# Altium schematic symbol library buzzer.SCHLIB: 39 symbols
Pins are listed as number, name and electrical type; pins without a type are passive.

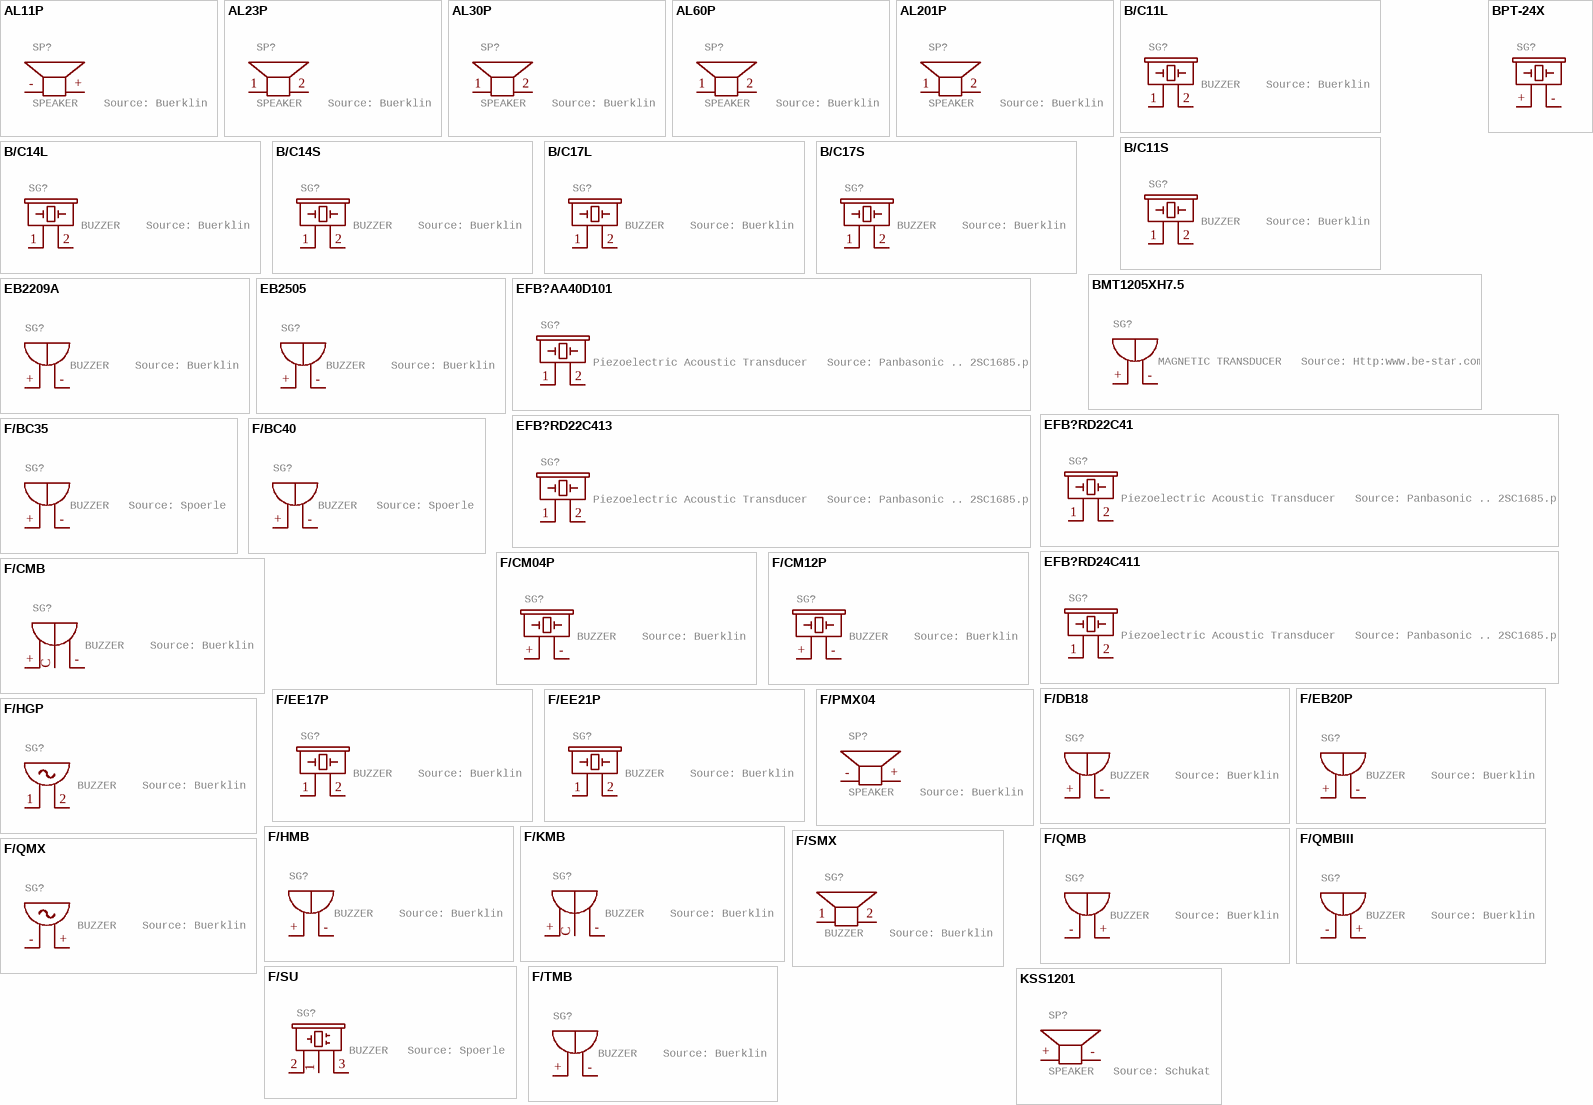
[diagram p0: symbols AL11P to KSS1201]

## AL11P
designator SP?, comment SPEAKER    Source: Buerklin
GateName_1: G$1; SymbolName_1: SP; DeviceSetName: AL11P; POPULARITY: 3; LibraryName: buzzer; Package: AL11P; OC_FARNELL: unknown; OC_NEWARK: unknown
footprint AL11P
pins: + 2, - 1

## AL23P
designator SP?, comment SPEAKER    Source: Buerklin
GateName_1: G$1; SymbolName_1: SP; DeviceSetName: AL23P; POPULARITY: 3; LibraryName: buzzer; Package: AL23P; OC_FARNELL: unknown; OC_NEWARK: unknown
footprint AL23P
pins: 1, 2

## AL30P
designator SP?, comment SPEAKER    Source: Buerklin
GateName_1: G$1; SymbolName_1: SP; DeviceSetName: AL30P; POPULARITY: 0; LibraryName: buzzer; Package: AL30P; OC_FARNELL: unknown; OC_NEWARK: unknown
footprint AL30P
pins: 1, 2

## AL60P
designator SP?, comment SPEAKER    Source: Buerklin
GateName_1: G$1; SymbolName_1: SP; DeviceSetName: AL60P; POPULARITY: 2; LibraryName: buzzer; Package: AL60P; OC_FARNELL: unknown; OC_NEWARK: unknown
footprint AL60P
pins: 1, 2

## AL201P
designator SP?, comment SPEAKER    Source: Buerklin
GateName_1: G$1; SymbolName_1: SP; DeviceSetName: AL201P; POPULARITY: 1; LibraryName: buzzer; Package: AL201P; OC_FARNELL: unknown; OC_NEWARK: unknown
footprint AL201P
pins: 1, 2

## B/C11L
designator SG?, comment BUZZER    Source: Buerklin
GateName_1: G$1; SymbolName_1: B2P; DeviceSetName: B/C11L; POPULARITY: 2; LibraryName: buzzer; Package: B/C11L; OC_FARNELL: unknown; OC_NEWARK: unknown
footprint B/C11L
pins: 1, 2

## B/C11S
designator SG?, comment BUZZER    Source: Buerklin
GateName_1: G$1; SymbolName_1: B2P; DeviceSetName: B/C11S; POPULARITY: 2; LibraryName: buzzer; Package: B/C11S; OC_FARNELL: unknown; OC_NEWARK: unknown
footprint B/C11S
pins: 1, 2

## B/C14L
designator SG?, comment BUZZER    Source: Buerklin
GateName_1: G$1; SymbolName_1: B2P; DeviceSetName: B/C14L; POPULARITY: 0; LibraryName: buzzer; Package: B/C14L; OC_FARNELL: unknown; OC_NEWARK: unknown
footprint B/C14L
pins: 1, 2

## B/C14S
designator SG?, comment BUZZER    Source: Buerklin
GateName_1: G$1; SymbolName_1: B2P; DeviceSetName: B/C14S; POPULARITY: 0; LibraryName: buzzer; Package: B/C14S; OC_FARNELL: unknown; OC_NEWARK: unknown
footprint B/C14S
pins: 1, 2

## B/C17L
designator SG?, comment BUZZER    Source: Buerklin
GateName_1: G$1; SymbolName_1: B2P; DeviceSetName: B/C17L; POPULARITY: 0; LibraryName: buzzer; Package: B/C17L; OC_FARNELL: unknown; OC_NEWARK: unknown
footprint B/C17L
pins: 1, 2

## B/C17S
designator SG?, comment BUZZER    Source: Buerklin
GateName_1: G$1; SymbolName_1: B2P; DeviceSetName: B/C17S; POPULARITY: 0; LibraryName: buzzer; Package: B/C17S; OC_FARNELL: unknown; OC_NEWARK: unknown
footprint B/C17S
pins: 1, 2

## BMT1205XH7.5
designator SG?, comment MAGNETIC TRANSDUCER   Source: Http:www.be-star.com
GateName_1: G$1; SymbolName_1: B; DeviceSetName: BMT1205XH7.5; POPULARITY: 0; LibraryName: buzzer; Package: BMT1205XH7.5; OC_FARNELL: unknown; OC_NEWARK: unknown
footprint BMT1205XH7.5
pins: +, -

## BPT-24X
designator SG?
GateName_1: G$1; SymbolName_1: B2P; DeviceSetName: BPT-24X; POPULARITY: 0; LibraryName: buzzer; Package: BPT-24X; OC_FARNELL: unknown; OC_NEWARK: unknown
footprint BPT-24X
pins: + 1, - 2

## EB2209A
designator SG?, comment BUZZER    Source: Buerklin
GateName_1: G$1; SymbolName_1: B; DeviceSetName: EB2209A; POPULARITY: 0; LibraryName: buzzer; Package: EB2209A; OC_FARNELL: unknown; OC_NEWARK: unknown
footprint EB2209A
pins: +, -

## EB2505
designator SG?, comment BUZZER    Source: Buerklin
GateName_1: G$1; SymbolName_1: B; DeviceSetName: EB2505; POPULARITY: 0; LibraryName: buzzer; Package: EB2505; OC_FARNELL: unknown; OC_NEWARK: unknown
footprint EB2505
pins: +, -

## EFB?AA40D101
designator SG?, comment Piezoelectric Acoustic Transducer   Source: Panbasonic .. 2SC1685.pdf
GateName_1: G$1; SymbolName_1: B2P; DeviceName: AA40D101; DeviceSetName: EFB?; POPULARITY: 0; LibraryName: buzzer; Package: EFBAA40D101; OC_FARNELL: unknown; OC_NEWARK: unknown
footprint EFBAA40D101
pins: 1, 2

## EFB?RD22C41
designator SG?, comment Piezoelectric Acoustic Transducer   Source: Panbasonic .. 2SC1685.pdf
GateName_1: G$1; SymbolName_1: B2P; DeviceName: RD22C41; DeviceSetName: EFB?; POPULARITY: 0; LibraryName: buzzer; Package: EFBRD22C41; OC_FARNELL: unknown; OC_NEWARK: unknown
footprint EFBRD22C41
pins: 1, 2

## EFB?RD22C413
designator SG?, comment Piezoelectric Acoustic Transducer   Source: Panbasonic .. 2SC1685.pdf
GateName_1: G$1; SymbolName_1: B2P; DeviceName: RD22C413; DeviceSetName: EFB?; POPULARITY: 0; LibraryName: buzzer; Package: EFBRD22C413; OC_FARNELL: unknown; OC_NEWARK: unknown
footprint EFBRD22C413
pins: 1, 2

## EFB?RD24C411
designator SG?, comment Piezoelectric Acoustic Transducer   Source: Panbasonic .. 2SC1685.pdf
GateName_1: G$1; SymbolName_1: B2P; DeviceName: RD24C411; DeviceSetName: EFB?; POPULARITY: 0; LibraryName: buzzer; Package: EFBRD24C411; OC_FARNELL: unknown; OC_NEWARK: unknown
footprint EFBRD24C411
pins: 1, 2

## F/BC35
designator SG?, comment BUZZER   Source: Spoerle
GateName_1: G$1; SymbolName_1: B; DeviceSetName: F/BC35; POPULARITY: 0; LibraryName: buzzer; Package: F/BC35; OC_FARNELL: unknown; OC_NEWARK: unknown
footprint F/BC35
pins: +, -

## F/BC40
designator SG?, comment BUZZER   Source: Spoerle
GateName_1: G$1; SymbolName_1: B; DeviceSetName: F/BC40; POPULARITY: 0; LibraryName: buzzer; Package: F/BC40; OC_FARNELL: unknown; OC_NEWARK: unknown
footprint F/BC40
pins: +, -

## F/CM04P
designator SG?, comment BUZZER    Source: Buerklin
GateName_1: G$1; SymbolName_1: B2P; DeviceSetName: F/CM04P; POPULARITY: 0; LibraryName: buzzer; Package: F/CM04P; OC_FARNELL: unknown; OC_NEWARK: unknown
footprint F/CM04P
pins: + 1, - 2

## F/CM12P
designator SG?, comment BUZZER    Source: Buerklin
GateName_1: G$1; SymbolName_1: B2P; DeviceSetName: F/CM12P; POPULARITY: 9; LibraryName: buzzer; Package: F/CM12P; OC_FARNELL: unknown; OC_NEWARK: unknown
footprint F/CM12P
pins: + 1, - 2

## F/CMB
designator SG?, comment BUZZER    Source: Buerklin
GateName_1: 1; SymbolName_1: BT; DeviceSetName: F/CMB; POPULARITY: 0; LibraryName: buzzer; Package: F/CMB; OC_FARNELL: unknown; OC_NEWARK: unknown
footprint F/CMB
pins: +, -, C T

## F/DB18
designator SG?, comment BUZZER    Source: Buerklin
GateName_1: G$1; SymbolName_1: B; DeviceSetName: F/DB18; POPULARITY: 0; LibraryName: buzzer; Package: F/DB18; OC_FARNELL: unknown; OC_NEWARK: unknown
footprint F/DB18
pins: +, -

## F/EB20P
designator SG?, comment BUZZER    Source: Buerklin
GateName_1: G$1; SymbolName_1: B; DeviceSetName: F/EB20P; POPULARITY: 0; LibraryName: buzzer; Package: F/EB20P; OC_FARNELL: unknown; OC_NEWARK: unknown
footprint F/EB20P
pins: +, -

## F/EE17P
designator SG?, comment BUZZER    Source: Buerklin
GateName_1: G$1; SymbolName_1: B2P; DeviceSetName: F/EE17P; POPULARITY: 0; LibraryName: buzzer; Package: F/EE17P; OC_FARNELL: unknown; OC_NEWARK: unknown
footprint F/EE17P
pins: 1, 2

## F/EE21P
designator SG?, comment BUZZER    Source: Buerklin
GateName_1: G$1; SymbolName_1: B2P; DeviceSetName: F/EE21P; POPULARITY: 0; LibraryName: buzzer; Package: F/EE21P; OC_FARNELL: unknown; OC_NEWARK: unknown
footprint F/EE21P
pins: 1, 2

## F/HGP
designator SG?, comment BUZZER    Source: Buerklin
GateName_1: G$1; SymbolName_1: BWS; DeviceSetName: F/HGP; POPULARITY: 0; LibraryName: buzzer; Package: F/HGP; OC_FARNELL: unknown; OC_NEWARK: unknown
footprint F/HGP
pins: 1, 2

## F/HMB
designator SG?, comment BUZZER    Source: Buerklin
GateName_1: G$1; SymbolName_1: B; DeviceSetName: F/HMB; POPULARITY: 0; LibraryName: buzzer; Package: F/HMB; OC_FARNELL: unknown; OC_NEWARK: unknown
footprint F/HMB
pins: +, -

## F/KMB
designator SG?, comment BUZZER    Source: Buerklin
GateName_1: G$1; SymbolName_1: BT; DeviceSetName: F/KMB; POPULARITY: 0; LibraryName: buzzer; Package: F/KMB; OC_FARNELL: unknown; OC_NEWARK: unknown
footprint F/KMB
pins: +, -, C T

## F/PMX04
designator SP?, comment SPEAKER    Source: Buerklin
GateName_1: G$1; SymbolName_1: SP; DeviceSetName: F/PMX04; POPULARITY: 0; LibraryName: buzzer; Package: F/PMX04A; OC_FARNELL: unknown; OC_NEWARK: unknown
footprint F/PMX04A
pins: + 2, - 1

## F/QMB
designator SG?, comment BUZZER    Source: Buerklin
GateName_1: G$1; SymbolName_1: B; DeviceSetName: F/QMB; POPULARITY: 1; LibraryName: buzzer; Package: F/QMB; OC_FARNELL: unknown; OC_NEWARK: unknown
footprint F/QMB
pins: + -, - +

## F/QMBIII
designator SG?, comment BUZZER    Source: Buerklin
GateName_1: G$1; SymbolName_1: B; DeviceSetName: F/QMBIII; POPULARITY: 1; LibraryName: buzzer; Package: F/QMBIII; OC_FARNELL: unknown; OC_NEWARK: unknown
footprint F/QMBIII
pins: + -, - +

## F/QMX
designator SG?, comment BUZZER    Source: Buerklin
GateName_1: G$1; SymbolName_1: BWS; DeviceSetName: F/QMX; POPULARITY: 4; LibraryName: buzzer; Package: F/QMX; OC_FARNELL: unknown; OC_NEWARK: unknown
footprint F/QMX
pins: + 2, - 1

## F/SMX
designator SG?, comment BUZZER    Source: Buerklin
GateName_1: G$1; SymbolName_1: SP; DeviceSetName: F/SMX; POPULARITY: 0; LibraryName: buzzer; Package: F/SMX; OC_FARNELL: unknown; OC_NEWARK: unknown
footprint F/SMX
pins: 1, 2

## F/SU
designator SG?, comment BUZZER   Source: Spoerle
GateName_1: G$1; SymbolName_1: B3P; DeviceSetName: F/SU; POPULARITY: 0; LibraryName: buzzer; Package: F/SU; OC_FARNELL: unknown; OC_NEWARK: unknown
footprint F/SU
pins: 1, 2, 3

## F/TMB
designator SG?, comment BUZZER    Source: Buerklin
GateName_1: 1; SymbolName_1: B; DeviceSetName: F/TMB; LibraryName: buzzer; Package: F/TMB; OC_FARNELL: unknown; OC_NEWARK: unknown; POPULARITY: 1
footprint F/TMB
pins: +, -

## KSS1201
designator SP?, comment SPEAKER   Source: Schukat
GateName_1: 1; SymbolName_1: SP; DeviceSetName: KSS1201; LibraryName: buzzer; Package: KSS1201; OC_FARNELL: unknown; OC_NEWARK: unknown; POPULARITY: 1
footprint KSS1201
pins: + 1, - 2